# Altium schematic symbol library transistors.SchLib: 11 symbols
Pins are listed as number, name and electrical type; pins without a type are passive.

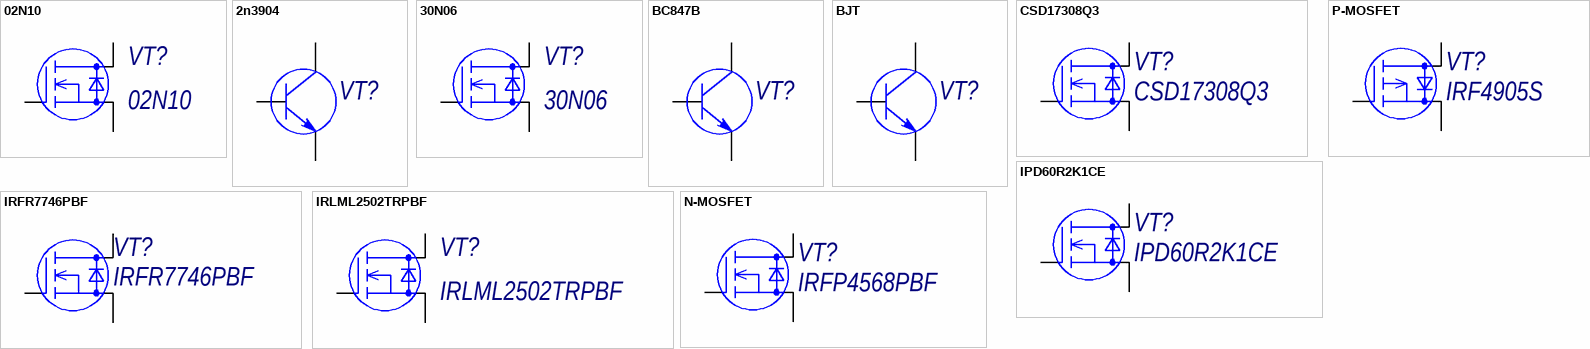
[diagram p0: symbols 02N10 to P-MOSFET]

## 02N10
designator VT?
N-MOSFET 100В 2А; Manufacturer: Hottech Co. Ltd; Name: 02N10
footprint SOT23-3 (SOT23, 3-Leads, Body 2,90x2,30mm, Pitch 0,95mm, IPC Medium Density)
pins: 1 G, 2 S, 3 D

## 2n3904
designator VT?, comment -  (value not drawn)
Биполярный NPN транзистор; TU: -; Manufacturer: -; Name: -
footprint TO-92
pins: 1, 2, 3

## 30N06
designator VT?
N-MOSFET 60В 30А; Manufacturer: UMW Youtai Semiconductor; Name: 30N06
footprint D-PAK (D-PAK, 3-Pads, Body 6,21x6,73mm (max), IPC High Density)
pins: 1 G, 2 S, 3 D

## BC847B
designator VT?  (value not drawn)
Биполярный NPN транзистор 45В 100мА; Manufacturer: NXP Semiconductor; Name: BC847B
footprint SOT23-3 (SOT23, 3-Leads, Body 2,90x2,30mm, Pitch 0,95mm, IPC Medium Density)
pins: 1, 2, 3

## BJT
designator VT?, comment -  (value not drawn)
Биполярный NPN транзистор; TU: -; Manufacturer: -; Name: -
footprint SOT23-3 (SOT23, 3-Leads, Body 2,90x2,30mm, Pitch 0,95mm, IPC Medium Density)
pins: 1, 2, 3

## CSD17308Q3
designator VT?
N-MOSFET 30В 47А; Manufacturer: Texas Instruments; Name: CSD17308Q3
pins: 1 G, 2 D, 3 S

## IPD60R2K1CE
designator VT?
N-MOSFET 600В 3,7А; Manufacturer: Infineon; Name: IPD60R2K1CE
footprint D-PAK (Footprint not found)
pins: 1 G, 2 D, 3 S

## IRFR7746PBF
designator VT?
N-MOSFET 75В, 56А; Manufacturer: Internationa Rectifier; Name: IRFR7746PBF
footprint D-PAK (D-PAK, 3-Pads, Body 6,21x6,73mm (max), IPC High Density)
pins: 1 G, 2 D, 3 S

## IRLML2502TRPBF
designator VT?
N-MOSFET 20В 4,5А; Manufacturer: International Rectifier; Name: IRLML2502TRPBF
footprint SOT23-3 (SOT23, 3-Leads, Body 2,90x2,30mm, Pitch 0,95mm, IPC Medium Density)
pins: 1 G, 2 S, 3 D

## N-MOSFET
designator VT?, comment IRFP4568PBF
N-MOSFET; Name: IRFP4568PBF; Link: *
pins: 1 G, 2 D, 3 S

## P-MOSFET
designator VT?, comment IRF4905S
P-MOSFET; Name: IRF4905S; Link: *
footprint D2PAK
pins: 1 G, 2 D, 3 S